# Altium footprint library TO-264-3.PcbLib: 1 footprints
Each footprint in its own frame and in the unit in brackets; x right, y up, seen from the top. Pads: shape width x height; smd on the part's side, far side on the other; paste and mask are expansions set on the pad; w line width, h text height; cw(c..) or ccw(c..) is an arc to the next point about the centre after c.
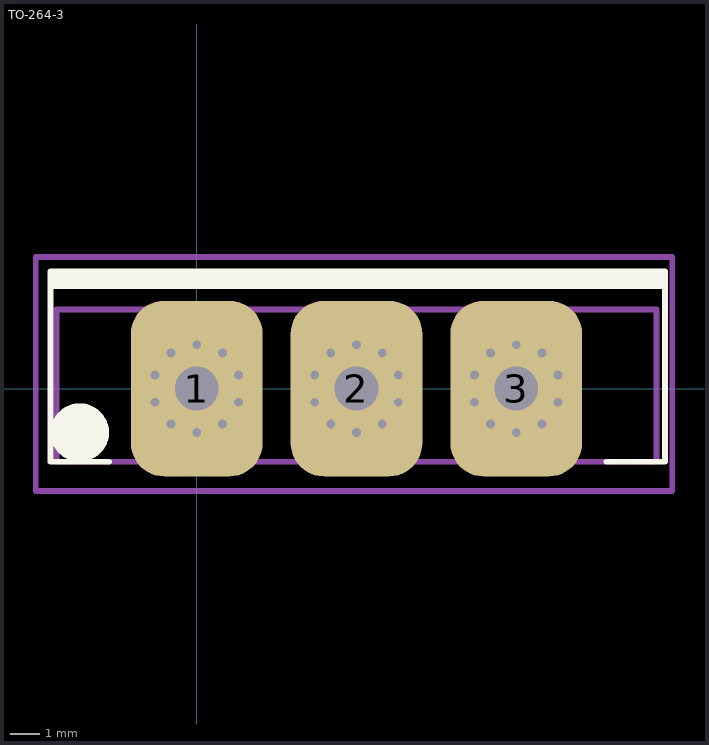
[diagram p0: the footprint, top view; thin cyan lines are the x and y axes]

## TO-264-3 [mm]
pads (3):
  rrect50% 4.5x6 hole 1.5 mask+0.05: 1(0,0) 2(5.46,0) 3(10.92,0)
via 0,1.5 diameter 0.6 hole 0.3
via -0.882,1.214 diameter 0.6 hole 0.3
via -1.427,0.464 diameter 0.6 hole 0.3
via -1.427,-0.464 diameter 0.6 hole 0.3
via -0.882,-1.214 diameter 0.6 hole 0.3
via 0,-1.5 diameter 0.6 hole 0.3
via 0.882,-1.214 diameter 0.6 hole 0.3
via 1.427,-0.464 diameter 0.6 hole 0.3
via 1.427,0.464 diameter 0.6 hole 0.3
via 0.882,1.214 diameter 0.6 hole 0.3
via 6.342,1.214 diameter 0.6 hole 0.3
via 6.887,0.464 diameter 0.6 hole 0.3
via 6.887,-0.464 diameter 0.6 hole 0.3
via 6.342,-1.214 diameter 0.6 hole 0.3
via 5.46,-1.5 diameter 0.6 hole 0.3
via 4.578,-1.214 diameter 0.6 hole 0.3
via 4.033,-0.464 diameter 0.6 hole 0.3
via 4.033,0.464 diameter 0.6 hole 0.3
via 4.578,1.214 diameter 0.6 hole 0.3
via 5.46,1.5 diameter 0.6 hole 0.3
via 11.802,1.214 diameter 0.6 hole 0.3
via 12.347,0.464 diameter 0.6 hole 0.3
via 12.347,-0.464 diameter 0.6 hole 0.3
via 11.802,-1.214 diameter 0.6 hole 0.3
via 10.92,-1.5 diameter 0.6 hole 0.3
via 10.038,-1.214 diameter 0.6 hole 0.3
via 9.493,-0.464 diameter 0.6 hole 0.3
via 9.493,0.464 diameter 0.6 hole 0.3
via 10.038,1.214 diameter 0.6 hole 0.3
via 10.92,1.5 diameter 0.6 hole 0.3
Top Overlay:
  circle w1: c-4,-1.5 r0.5
  lines w0.2: -3,-2.5 -5,-2.5 -5,3.5 ; 14,-2.5 16,-2.5 16,4 -5,4 -5,3.5 ; 16,3.5 -2,3.5 -5,3.5
  lines w0.5: -4.75,3.75 15.75,3.75
Top Assembly:
  lines w0.2: -4.79,-2.5 15.71,-2.5 15.71,2.7 -4.79,2.7 -4.79,-2.5
Top Courtyard:
  lines w0.2: -5.5,-3.5 -5.5,3 -5.5,4.5 16.25,4.5 16.25,-3.5 -5.5,-3.5
3D body "User Library-to264.step": height 38.72, standoff -7.25, extent -4.79,-2.5 15.71,2.7